# Altium schematic symbol library mechanical.SchLib: 2 symbols
Pins are listed as number, name and electrical type; pins without a type are passive.

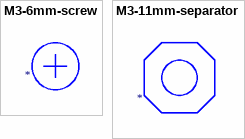
[diagram p0: symbols M3-6mm-screw to M3-11mm-separator]

## M3-6mm-screw
designator *  (value not drawn)
footprint M3-6mm-SCREW (Footprint not found)

## M3-11mm-separator
designator *  (value not drawn)
footprint M3-11mm-separator